# Altium integrated library OSTTF020161.IntLib: 1 symbol
Pins are listed as number, name and electrical type; pins without a type are passive.

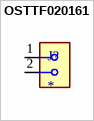
[diagram p0: symbol OSTTF020161]

## OSTTF020161
designator J?
2 Position Wire to Board Terminal Block Vertical with Board 0.138 (3.50mm) Through Hole; MF: On Shore; MP: OSTTF020161; SnapEDA_Link: https://www.snapeda.com/parts/OSTTF020161/ON/view-part/?ref=snap; Package: None; Value: *; Check_prices: https://www.snapeda.com/parts/OSTTF020161/ON/view-part/?ref=eda
footprint OST_OSTTF020161
pins: 1, 2